# Altium schematic symbol library light_driver.SchLib: 22 symbols
Pins are listed as number, name and electrical type; pins without a type are passive.

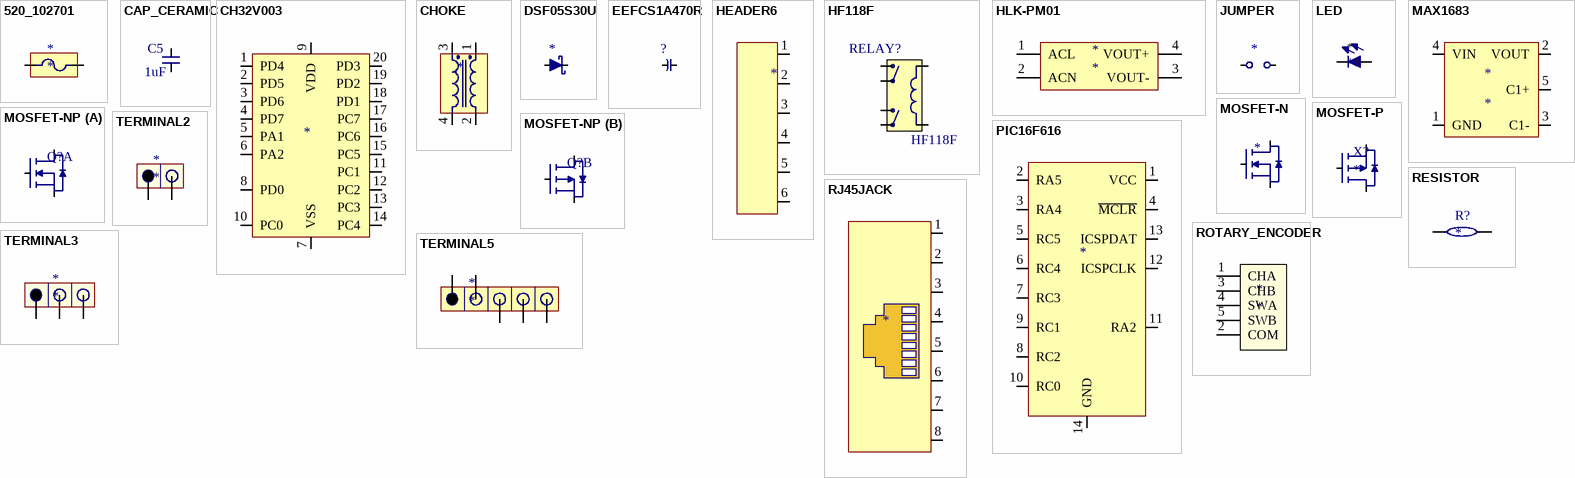
[diagram p0: symbols 520_102701 to TERMINAL5]

## 520_102701
designator *
5x20 5A fuse speed F
footprint BEL_FC-102-BRIGHT-TIN
pins: 1, 2

## CAP_CERAMIC
designator C5, comment 1uF
Ceramic capacitor; Value: 1uF
footprint CAP 0402_1005 (Chip Capacitor, 2-Leads, Body 1.02x0.51mm, IPC Medium Density)
footprint CAP 0603_1608 (Chip Capacitor, 2-Leads, Body 1.60x0.80mm, IPC Medium Density)
footprint CAP 0805_2012 (Chip Capacitor, 2-Leads, Body 2.00x1.20mm, IPC Medium Density)
footprint CAP 1210_3225 (Chip Capacitor, 2-Leads, Body 3.20x1.60mm, IPC High Density)
pins: 1 A, 2 B

## CH32V003
designator *  (value not drawn)
footprint TSOP20-127P600-8N (TSOP-20)
pins: 1 PD4, 2 PD5, 3 PD6, 4 PD7, 5 PA1, 6 PA2, 7 VSS, 8 PD0, 9 VDD, 10 PC0, 11 PC1, 12 PC2, 13 PC3, 14 PC4, 15 PC5, 16 PC6, 17 PC7, 18 PD1, 19 PD2, 20 PD3

## CHOKE
designator *  (value not drawn)
footprint SC-40-200 (Common mode choke)
pins: 1, 2, 3, 4

## DSF05S30U
designator *  (value not drawn)
Schottky Diode 20v 500mA; Alternate: CUS551V30
footprint SODFL250X100-2L (SODFL, 2-Leads, Body 1.25x2.50mm, IPC High Density)
pins: 1 C, 2 A

## EEFCS1A470R
designator ?  (value not drawn)
Electrolytic Capacitor; MPN: EEFCS1A470R; Voltage: 6.3V; Vendor: Panasonic; TYPE: Polymer; Value: Value
footprint CAPMP7343X11L (Molded Capacitor, 2-Leads, Body 7.30x4.30mm, IPC High Density)
pins: 1 +, 2 -

## HEADER6
designator *  (value not drawn)
footprint HEADER6
pins: 1, 2, 3, 4, 5, 6

## HF118F
designator RELAY?
240V 10A Relay 5V
footprint G5RL-1-E-HR (16A 240v relay 5v coil 62.5ohm)
pins: 1 (power), 2 (power), 3 (power), 4 (power), 5 (power), 6 (power)

## HLK-PM01
designator *
5V PSU 0.6A
footprint HLK-PM01 (5V PSU)
pins: 1 ACL, 2 ACN, 3 VOUT-, 4 VOUT+

## JUMPER
designator *  (value not drawn)
footprint JUMPER
pins: 1, 2

## LED
designator *
LED; Value: *; LCSC Part Number: *
footprint SMT_LED 0402_BLUE (Chip Diode, 2-Leads, Body 1.00x0.50mm, IPC Medium Density)
footprint SMT_LED 0402_ORANGE (Chip Diode, 2-Leads, Body 1.00x0.50mm, IPC Medium Density)
footprint SMT_LED 0603_RED (Chip Diode, 2-Leads, Body 1.60x0.80mm, IPC Medium Density)
pins: 1 CATHODE "TP", 2 ANODE "TP"

## MAX1683
designator *
Charge Pump
footprint SOT23-5 (SOT23, 5-Leads, Body 2.90x2.80mm, Pitch 0.95mm, IPC Medium Density)
pins: 1 GND, 2 VOUT, 3 C1-, 4 VIN, 5 C1+

## MOSFET-N
designator *  (value not drawn)
footprint SOT23 (SOT23, 3-Leads, Body 2.90x2.30mm, Pitch 0.95mm, IPC High Density)
pins: D, G, S

## MOSFET-NP
designator Q?
N/P Channel MOSFET; Manufacturer Part Number: DMC2400UV-13; LCSC Part Number: C500791
footprint SOT563 (SOTFL, 6-Leads, Body 1.60x1.63mm, Pitch 0.50mm, IPC High Density)
footprint DMG6601LVT; pin to pad DN>6 DP>4 GN>1 GP>3 SN>5 SP>2
part A pins: DN, GN, SN
part B pins: DP, GP, SP

## MOSFET-P
designator X?
P Channel MOSFET. 300mA; Manufacturer Part Number: DMP3099L-13; LCSC Part Number: C412516
footprint SOT23 (SOT23, 3-Leads, Body 2.90x2.30mm, Pitch 0.95mm, IPC High Density)
pins: D, G, S

## PIC16F616
designator *  (value not drawn)
footprint SOIC14 (SOIC, 14-Leads, Body 8.65x3.90mm, Pitch 1.27mm, IPC Medium Density)
pins: 1 VCC, 2 RA5, 3 RA4, 4 ~{MCLR}, 5 RC5, 6 RC4, 7 RC3, 8 RC2, 9 RC1, 10 RC0, 11 RA2, 12 ICSPCLK, 13 ICSPDAT, 14 GND

## RESISTOR
designator R?
Resistor; Value: *; LCSC Part Number: *; Tolerance: *; Package: *; Power: *
footprint RES 0402_1005 (Chip Resistor, 2-Leads, Body 1.0x0.5mm, IPC Medium Density)
footprint RES 0603_1608 (Chip Resistor, 2-Leads, Body 1.60x0.80mm, IPC Medium Density)
pins: 1 A, 2 B

## RJ45JACK
designator *  (value not drawn)
footprint RJHSE-5080 (RJ45 Jack)
pins: 1, 2, 3, 4, 5, 6, 7, 8

## ROTARY_ENCODER
designator *
Rotary Encoder
footprint ENCODER (Rotary encoder)
pins: 1 CHA, 2 COM, 3 CHB, 4 SWA, 5 SWB

## TERMINAL2
designator *
3 way terminal block
footprint TERMINAL_BLOCK_2 (2 Way 5mm screw terminal block)
pins: 1, 2

## TERMINAL3
designator *
3 way terminal block
footprint TERMINAL_BLOCK_3 (3 Way 5mm screw terminal block)
pins: 1, 2, 3

## TERMINAL5
designator *
5 way terminal block
footprint TERMINAL_BLOCK_5 (5 Way 5mm screw terminal block)
pins: 1, 2, 3, 4, 5